# Altium footprint library IND-1212.PcbLib: 1 footprints
Each footprint in its own frame and in the unit in brackets; x right, y up, seen from the top. Pads: shape width x height; smd on the part's side, far side on the other; paste and mask are expansions set on the pad; w line width, h text height; cw(c..) or ccw(c..) is an arc to the next point about the centre after c.
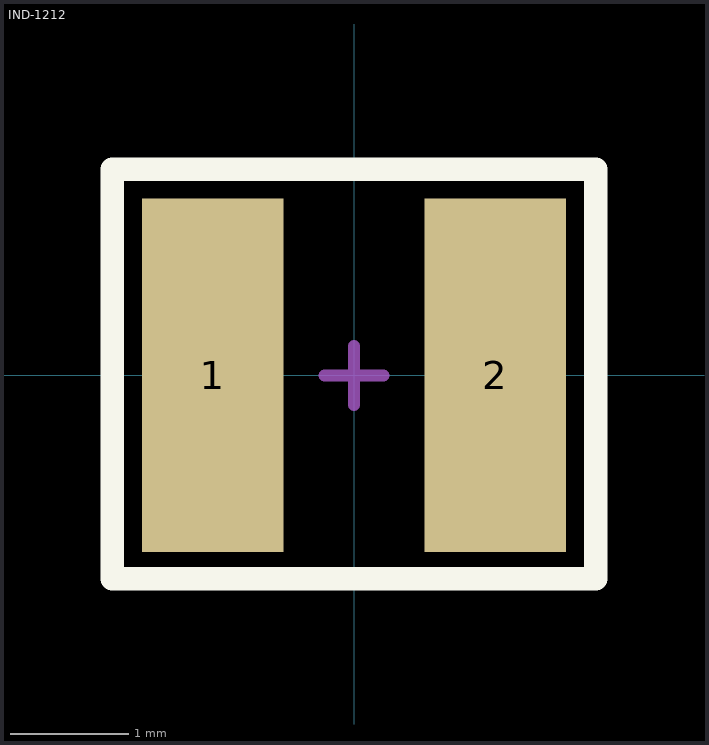
[diagram p0: the footprint, top view; thin cyan lines are the x and y axes]

## IND-1212 [mm]
height 0.55
pads (2):
  rect 1.2x3 smd: 1(-1.2,0) 2(1.2,0)
Top Overlay:
  lines w0.2: -2.05,-1.725 -2.05,1.75 2.05,1.75 2.05,-1.725 -2.05,-1.725
Top Assembly:
  lines w0.1: -0.25,0 0.25,0 ; 0,-0.25 0,0.25 ; -2.05,-1.725 2.05,-1.725 2.05,1.75 -2.05,1.75 -2.05,-1.725
  text "'.Designator'" at 0,0 h0.7
3D body "User Library-Murata_LQH3NP_M0(1212).step": height 1.4, standoff -0.01, extent -1.51,-1.5 1.51,1.5